# Altium integrated library TJA1051T.IntLib: 1 symbol
Pins are listed as number, name and electrical type; pins without a type are passive.

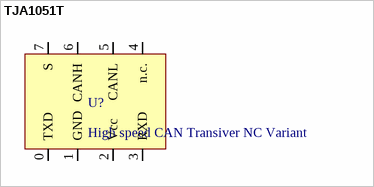
[diagram p0: symbol TJA1051T]

## TJA1051T
designator U?, comment High speed CAN Transiver NC Variant
footprint TJA1051T
pins: 0 TXD, 1 GND, 2 Vcc, 3 RXD, 4 n.c., 5 CANL, 6 CANH, 7 S